# Altium integrated library NSC LDO.IntLib: 1202 symbols (part 9 of 27)
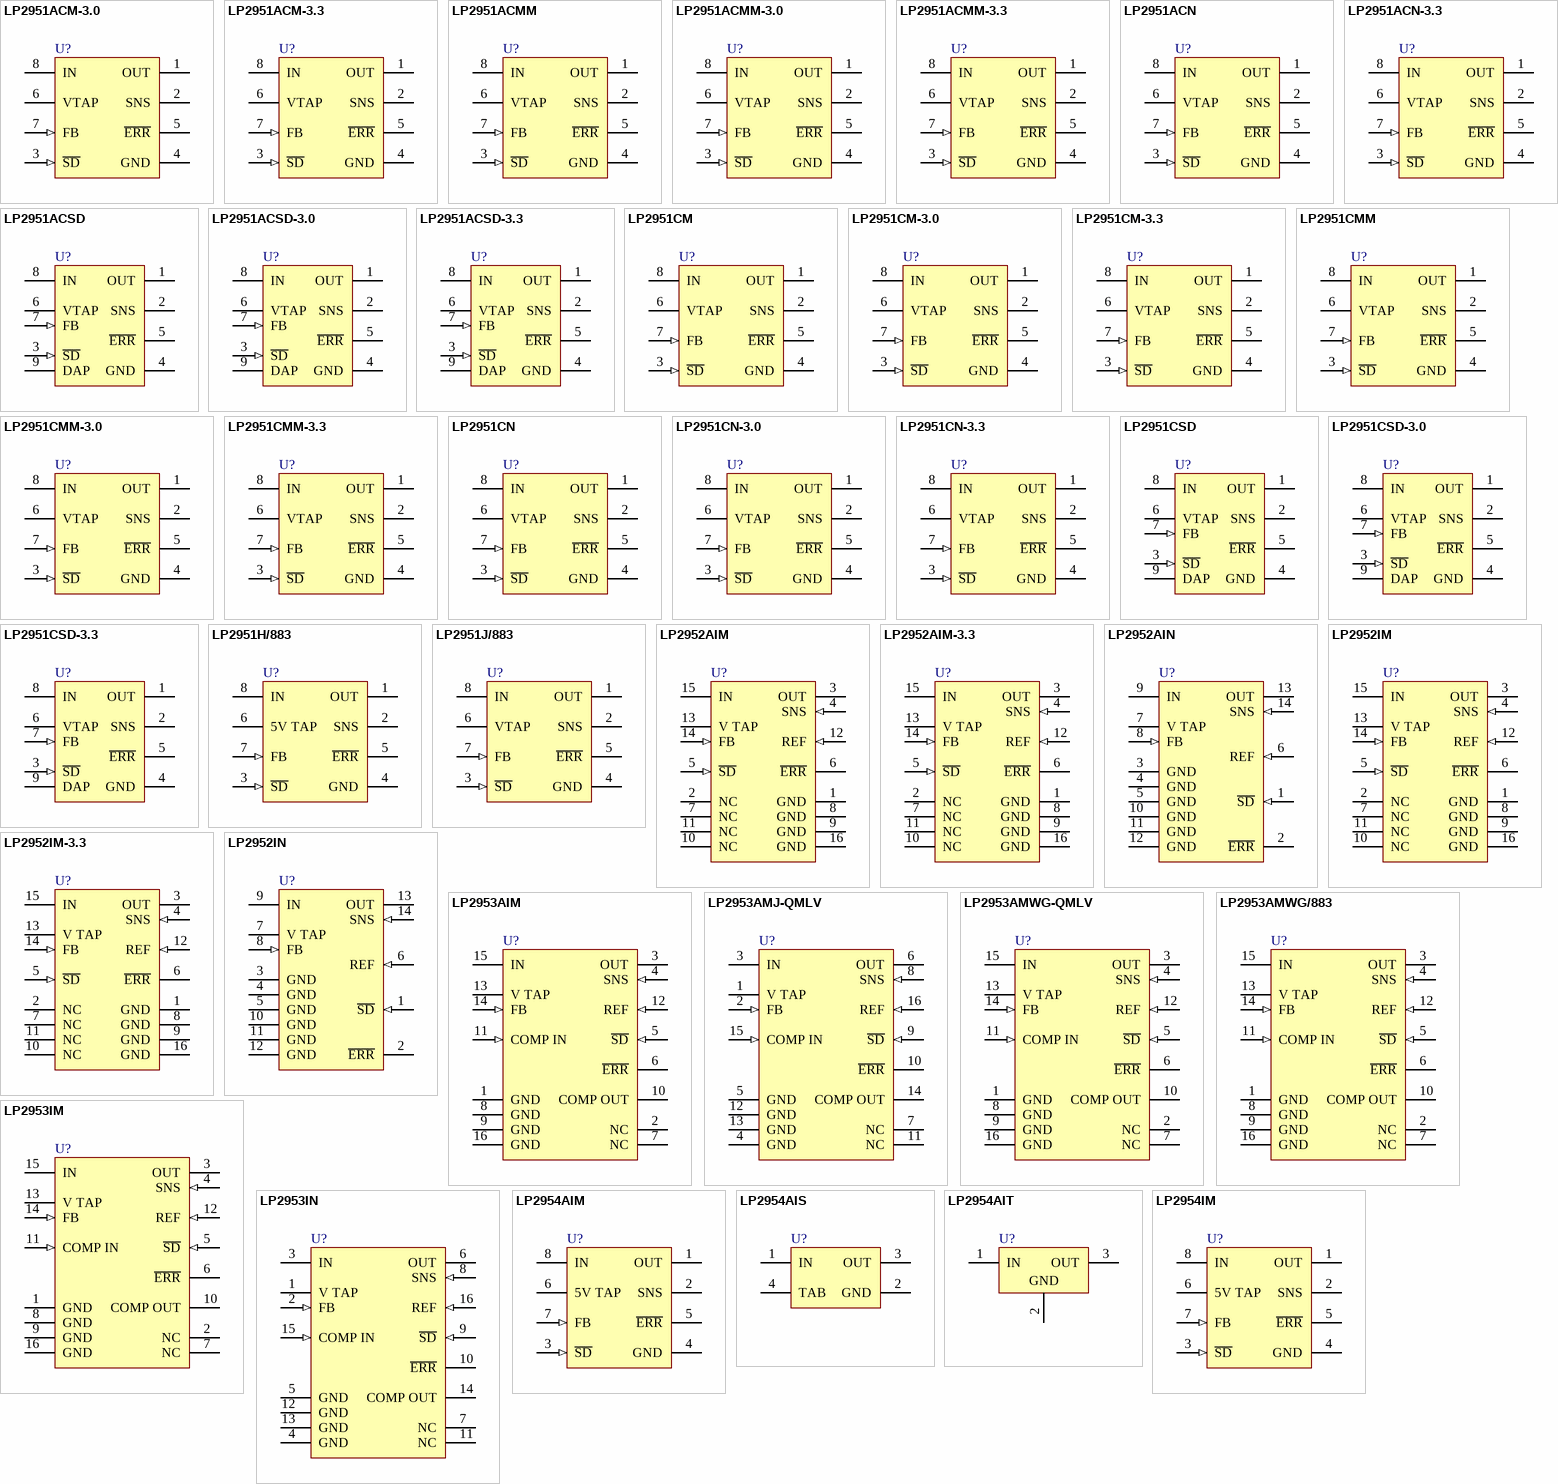
[diagram p38: symbols LP2951ACM-3.0 to LP2954IM]

## LP2951H/883
designator U?
Series of Adjustable Micropower Voltage Regulators; PartNumber: LP2951H/883; Manufacturer: National Semiconductor; CompType: LDO IC; PackageTopMarking: NS ZSSXXYYA LP2951H/883 Q*5962-3870501MGA; Published: 4-Dec-2008; DatasheetVersion: May-2005; PackageVersion: revF, Jun-1995; PackageReference: H08C; Publisher: Altium Limited; PackageDescription: Metal Can, TO-99, 8 Lead, .200 Dia., P.C.; RoHS: N; PinCount: 8; Code_JEDEC: TO-99; ComponentLink1Description: LP2951 Datasheet; ComponentLink1URL: http://www.national.com/ds/LP/LP2951.pdf; ComponentLink2Description: LP2951 Web Page; ComponentLink2URL: http://www.national.com/pf/LP/LP2951.html; ComponentLink3Description: H08C Package Page; ComponentLink3URL: http://www.national.com/packaging/folders/h08c.html
footprint H08C (Can; 8 Leads; Pin Circle Dia. 5.08 mm; Lead Dia. 0.48 mm (max))
pins: 1 OUT (power), 2 SNS, 3 ~{SD} (in), 4 GND (power), 5 ~{ERR} (oc), 6 5V TAP, 7 FB (in), 8 IN (power)

## LP2951J/883
designator U?
Series of Adjustable Micropower Voltage Regulators; PartNumber: LP2951J/883; Manufacturer: National Semiconductor; CompType: LDO IC; PackageTopMarking: NSZSSXXYYA*LP2951J/883*Q*3870501MPA; Published: 4-Dec-2008; DatasheetVersion: May-2005; PackageVersion: revM, Jul-2002; PackageReference: J08A; Publisher: Altium Limited; PackageDescription: Cerdip, .400 x .310in Body, 8 Lead, .300in Centers, .100in Pitch; RoHS: N; PinCount: 8; ComponentLink1Description: LP2951 Datasheet; ComponentLink1URL: http://www.national.com/ds/LP/LP2951.pdf; ComponentLink2Description: LP2951 Web Page; ComponentLink2URL: http://www.national.com/pf/LP/LP2951.html; ComponentLink3Description: J08A Package Page; ComponentLink3URL: http://www.national.com/packaging/folders/j08a.html
footprint J08A (DIP, 8-Leads, Row Spacing 7.62mm, Pitch 2.54mm, Body 9.78x6.73mm)
pins: 1 OUT (power), 2 SNS, 3 ~{SD} (in), 4 GND (power), 5 ~{ERR} (oc), 6 VTAP, 7 FB (in), 8 IN (power)

## LP2952AIM
designator U?
Adjustable Micropower Low-Dropout Voltage Regulator; PartNumber: LP2952AIM; Manufacturer: National Semiconductor; CompType: LDO IC; PackageTopMarking: NSUZXYTT*LP2952AIM; Published: 4-Dec-2008; DatasheetVersion: Mar-2005; PackageVersion: revJ, Aug-1995; PackageReference: M16A; Publisher: Altium Limited; PackageDescription: Molded Package, SO, .150in Wide, 16 Lead; RoHS: O; PinCount: 16; DigiKeyPartNumber: LP2952AIM-3.3-ND; Code_JEDEC: MS-012-AC; Code_IPC: SOIC127P600-16; ComponentLink1Description: LP2952 Datasheet; ComponentLink1URL: http://www.national.com/ds/LP/LP2952.pdf; ComponentLink2Description: LP2952 Web Page; ComponentLink2URL: http://www.national.com/pf/LP/LP2952.html; ComponentLink3Description: M16A Package Page; ComponentLink3URL: http://www.national.com/packaging/folders/m16a.html
footprint M16A_N (SOIC, 16-Leads, Body 9.9x3.9mm, Pitch 1.27mm, IPC Medium Density)
footprint M16A_L (SOIC, 16-Leads, Body 9.9x3.9mm, Pitch 1.27mm, IPC High Density)
footprint M16A_M (SOIC, 16-Leads, Body 9.9x3.9mm, Pitch 1.27mm, IPC Low Density)
pins: 1 GND (power), 2 NC, 3 OUT (power), 4 SNS (in), 5 ~{SD} (in), 6 ~{ERR} (oc), 7 NC, 8 GND (power), 9 GND (power), 10 NC, 11 NC, 12 REF (in), 13 V TAP, 14 FB (in), 15 IN (power), 16 GND (power)

## LP2952AIM-3.3
designator U?
Adjustable Micropower Low-Dropout Voltage Regulator; PartNumber: LP2952AIM-3.3; Manufacturer: National Semiconductor; CompType: LDO IC; PackageTopMarking: NSUZXYTT*LP2952AIM*-3.3; Published: 4-Dec-2008; DatasheetVersion: Mar-2005; PackageVersion: revJ, Aug-1995; PackageReference: M16A; Publisher: Altium Limited; PackageDescription: Molded Package, SO, .150in Wide, 16 Lead; RoHS: Y; PinCount: 16; DigiKeyPartNumber: LP2952AIM-3.3-ND; Code_JEDEC: MS-012-AC; Code_IPC: SOIC127P600-16; ComponentLink1Description: LP2952 Datasheet; ComponentLink1URL: http://www.national.com/ds/LP/LP2952.pdf; ComponentLink2Description: LP2952 Web Page; ComponentLink2URL: http://www.national.com/pf/LP/LP2952.html; ComponentLink3Description: M16A Package Page; ComponentLink3URL: http://www.national.com/packaging/folders/m16a.html
footprint M16A_N (SOIC, 16-Leads, Body 9.9x3.9mm, Pitch 1.27mm, IPC Medium Density)
footprint M16A_L (SOIC, 16-Leads, Body 9.9x3.9mm, Pitch 1.27mm, IPC High Density)
footprint M16A_M (SOIC, 16-Leads, Body 9.9x3.9mm, Pitch 1.27mm, IPC Low Density)
pins: 1 GND (power), 2 NC, 3 OUT (power), 4 SNS (in), 5 ~{SD} (in), 6 ~{ERR} (oc), 7 NC, 8 GND (power), 9 GND (power), 10 NC, 11 NC, 12 REF (in), 13 V TAP, 14 FB (in), 15 IN (power), 16 GND (power)

## LP2952AIN
designator U?
Adjustable Micropower Low-Dropout Voltage Regulator; PartNumber: LP2952AIN; Manufacturer: National Semiconductor; CompType: LDO IC; PackageTopMarking: NSUZXYYTTE#*LP2952AIN; Published: 4-Dec-2008; DatasheetVersion: Mar-2005; PackageVersion: revG, May-2006; PackageReference: N14A; Publisher: Altium Limited; PackageDescription: MDIP, .750 x .250 x.130in, 14 Lead, .100in Pitch; RoHS: O; PinCount: 14; DigiKeyPartNumber: LP2952AIN-ND; Code_JEDEC: MS-001-AA; ComponentLink1Description: LP2952 Datasheet; ComponentLink1URL: http://www.national.com/ds/LP/LP2952.pdf; ComponentLink2Description: LP2952 Web Page; ComponentLink2URL: http://www.national.com/pf/LP/LP2952.html; ComponentLink3Description: N14A Package Page; ComponentLink3URL: http://www.national.com/packaging/folders/n14a.html
footprint N14A (DIP, 14-Leads, Row Spacing 7.62mm, Pitch 2.54mm, Body 19.56x6.35mm)
pins: 1 ~{SD} (in), 2 ~{ERR} (oc), 3 GND (power), 4 GND (power), 5 GND (power), 6 REF (in), 7 V TAP, 8 FB (in), 9 IN (power), 10 GND (power), 11 GND (power), 12 GND (power), 13 OUT (power), 14 SNS (in)

## LP2952IM
designator U?
Adjustable Micropower Low-Dropout Voltage Regulator; PartNumber: LP2952IM; Manufacturer: National Semiconductor; CompType: LDO IC; PackageTopMarking: NSUZXYTT*LP2952IM; Published: 4-Dec-2008; DatasheetVersion: Mar-2005; PackageVersion: revJ, Aug-1995; PackageReference: M16A; Publisher: Altium Limited; PackageDescription: Molded Package, SO, .150in Wide, 16 Lead; RoHS: O; PinCount: 16; DigiKeyPartNumber: LP2952IM-ND; Code_JEDEC: MS-012-AC; Code_IPC: SOIC127P600-16; ComponentLink1Description: LP2952 Datasheet; ComponentLink1URL: http://www.national.com/ds/LP/LP2952.pdf; ComponentLink2Description: LP2952 Web Page; ComponentLink2URL: http://www.national.com/pf/LP/LP2952.html; ComponentLink3Description: M16A Package Page; ComponentLink3URL: http://www.national.com/packaging/folders/m16a.html
footprint M16A_N (SOIC, 16-Leads, Body 9.9x3.9mm, Pitch 1.27mm, IPC Medium Density)
footprint M16A_L (SOIC, 16-Leads, Body 9.9x3.9mm, Pitch 1.27mm, IPC High Density)
footprint M16A_M (SOIC, 16-Leads, Body 9.9x3.9mm, Pitch 1.27mm, IPC Low Density)
pins: 1 GND (power), 2 NC, 3 OUT (power), 4 SNS (in), 5 ~{SD} (in), 6 ~{ERR} (oc), 7 NC, 8 GND (power), 9 GND (power), 10 NC, 11 NC, 12 REF (in), 13 V TAP, 14 FB (in), 15 IN (power), 16 GND (power)

## LP2952IM-3.3
designator U?
Adjustable Micropower Low-Dropout Voltage Regulator; PartNumber: LP2952IM-3.3; Manufacturer: National Semiconductor; CompType: LDO IC; PackageTopMarking: NSUZXYTT*LP2952IM*-3.3; Published: 4-Dec-2008; DatasheetVersion: Mar-2005; PackageVersion: revJ, Aug-1995; PackageReference: M16A; Publisher: Altium Limited; PackageDescription: Molded Package, SO, .150in Wide, 16 Lead; RoHS: Y; PinCount: 16; DigiKeyPartNumber: LP2952IM-3.3-ND; Code_JEDEC: MS-012-AC; Code_IPC: SOIC127P600-16; ComponentLink1Description: LP2952 Datasheet; ComponentLink1URL: http://www.national.com/ds/LP/LP2952.pdf; ComponentLink2Description: LP2952 Web Page; ComponentLink2URL: http://www.national.com/pf/LP/LP2952.html; ComponentLink3Description: M16A Package Page; ComponentLink3URL: http://www.national.com/packaging/folders/m16a.html
footprint M16A_N (SOIC, 16-Leads, Body 9.9x3.9mm, Pitch 1.27mm, IPC Medium Density)
footprint M16A_L (SOIC, 16-Leads, Body 9.9x3.9mm, Pitch 1.27mm, IPC High Density)
footprint M16A_M (SOIC, 16-Leads, Body 9.9x3.9mm, Pitch 1.27mm, IPC Low Density)
pins: 1 GND (power), 2 NC, 3 OUT (power), 4 SNS (in), 5 ~{SD} (in), 6 ~{ERR} (oc), 7 NC, 8 GND (power), 9 GND (power), 10 NC, 11 NC, 12 REF (in), 13 V TAP, 14 FB (in), 15 IN (power), 16 GND (power)

## LP2952IN
designator U?
Adjustable Micropower Low-Dropout Voltage Regulator; PartNumber: LP2952IN; Manufacturer: National Semiconductor; CompType: LDO IC; PackageTopMarking: NSUZXYYTTE#*LP2952IN; Published: 4-Dec-2008; DatasheetVersion: Mar-2005; PackageVersion: revG, May-2006; PackageReference: N14A; Publisher: Altium Limited; PackageDescription: MDIP, .750 x .250 x.130in, 14 Lead, .100in Pitch; RoHS: Y; PinCount: 14; DigiKeyPartNumber: LP2952IN-ND; Code_JEDEC: MS-001-AA; ComponentLink1Description: LP2952 Datasheet; ComponentLink1URL: http://www.national.com/ds/LP/LP2952.pdf; ComponentLink2Description: LP2952 Web Page; ComponentLink2URL: http://www.national.com/pf/LP/LP2952.html; ComponentLink3Description: N14A Package Page; ComponentLink3URL: http://www.national.com/packaging/folders/n14a.html
footprint N14A (DIP, 14-Leads, Row Spacing 7.62mm, Pitch 2.54mm, Body 19.56x6.35mm)
pins: 1 ~{SD} (in), 2 ~{ERR} (oc), 3 GND (power), 4 GND (power), 5 GND (power), 6 REF (in), 7 V TAP, 8 FB (in), 9 IN (power), 10 GND (power), 11 GND (power), 12 GND (power), 13 OUT (power), 14 SNS (in)

## LP2953AIM
designator U?
Adjustable Micropower Low-Dropout Voltage Regulator; PartNumber: LP2953AIM; Manufacturer: National Semiconductor; CompType: LDO IC; PackageTopMarking: NSUZXYTT*LP2953AIM; Published: 4-Dec-2008; DatasheetVersion: Mar-2005; PackageVersion: revJ, Aug-1995; PackageReference: M16A; Publisher: Altium Limited; PackageDescription: Molded Package, SO, .150in Wide, 16 Lead; RoHS: Y; PinCount: 16; DigiKeyPartNumber: LP2953AIM-ND; Code_JEDEC: MS-012-AC; Code_IPC: SOIC127P600-16; ComponentLink1Description: LP2953 Datasheet; ComponentLink1URL: http://www.national.com/ds/LP/LP2953.pdf; ComponentLink2Description: LP2953 Web Page; ComponentLink2URL: http://www.national.com/pf/LP/LP2953.html; ComponentLink3Description: M16A Package Page; ComponentLink3URL: http://www.national.com/packaging/folders/m16a.html
footprint M16A_N (SOIC, 16-Leads, Body 9.9x3.9mm, Pitch 1.27mm, IPC Medium Density)
footprint M16A_L (SOIC, 16-Leads, Body 9.9x3.9mm, Pitch 1.27mm, IPC High Density)
footprint M16A_M (SOIC, 16-Leads, Body 9.9x3.9mm, Pitch 1.27mm, IPC Low Density)
pins: 1 GND (power), 2 NC, 3 OUT (power), 4 SNS (in), 5 ~{SD} (in), 6 ~{ERR} (oc), 7 NC, 8 GND (power), 9 GND, 10 COMP OUT (oc), 11 COMP IN (in), 12 REF (in), 13 V TAP, 14 FB (in), 15 IN (power), 16 GND (power)

## LP2953AMJ-QMLV
designator U?
Adjustable Micropower Low-Dropout Voltage Regulator; PartNumber: LP2953AMJ-QMLV; Manufacturer: National Semiconductor; CompType: LDO IC; PackageTopMarking: NSZSSXXYYA*LP2953AMJ-QV Q*5962-9233601VEA; Published: 4-Dec-2008; DatasheetVersion: Mar-2005; PackageVersion: revL, Sep-1993; PackageReference: J16A; Publisher: Altium Limited; PackageDescription: Cerdip (J), 16 Lead; RoHS: N; PinCount: 16; ComponentLink1Description: LP2953A Datasheet; ComponentLink1URL: http://www.national.com/ds/LP/LP2953A.pdf; ComponentLink2Description: LP2953A Web Page; ComponentLink2URL: http://www.national.com/pf/LP/LP2953A.html; ComponentLink3Description: J16A Package Page; ComponentLink3URL: http://www.national.com/packaging/folders/j16a.html
footprint J16A (DIP, 16-Leads, Row Spacing 7.62mm, Pitch 2.54mm, Body 19.56x6.73mm)
pins: 1 V TAP, 2 FB (in), 3 IN (power), 4 GND (power), 5 GND (power), 6 OUT (power), 7 NC, 8 SNS (in), 9 ~{SD} (in), 10 ~{ERR} (oc), 11 NC, 12 GND (power), 13 GND, 14 COMP OUT (oc), 15 COMP IN (in), 16 REF (in)

## LP2953AMWG-QMLV
designator U?
Adjustable Micropower Low-Dropout Voltage Regulator; PartNumber: LP2953AMWG-QMLV; Manufacturer: National Semiconductor; CompType: LDO IC; PackageTopMarking: NSZSSXXYYA*LP2953AMWG-*QV Q 5962-*9233601VXA; Published: 4-Dec-2008; DatasheetVersion: Mar-2005; PackageVersion: revE, Jul-2007; PackageReference: WG16A; Publisher: Altium Limited; PackageDescription: Cerpack, .390 x .250 x .070in, 16 Lead, .050in Pitch, Gull Wing; RoHS: N; PinCount: 16; ComponentLink1Description: LP2953A Datasheet; ComponentLink1URL: http://www.national.com/ds/LP/LP2953A.pdf; ComponentLink2Description: LP2953A Web Page; ComponentLink2URL: http://www.national.com/pf/LP/LP2953A.html; ComponentLink3Description: WG16A Package Page; ComponentLink3URL: http://www.national.com/packaging/folders/wg16a.html
footprint WG16A_N (CERPACK, 16-Leads, Body 9.9x6.5mm, Pitch 1.27mm, IPC Medium Density)
footprint WG16A_L (CERPACK, 16-Leads, Body 9.9x6.5mm, Pitch 1.27mm, IPC High Density)
footprint WG16A_M (CERPACK, 16-Leads, Body 9.9x6.5mm, Pitch 1.27mm, IPC Low Density)
pins: 1 GND (power), 2 NC, 3 OUT (power), 4 SNS (in), 5 ~{SD} (in), 6 ~{ERR} (oc), 7 NC, 8 GND (power), 9 GND, 10 COMP OUT (oc), 11 COMP IN (in), 12 REF (in), 13 V TAP, 14 FB (in), 15 IN (power), 16 GND (power)

## LP2953AMWG/883
designator U?
Adjustable Micropower Low-Dropout Voltage Regulator; PartNumber: LP2953AMWG/883; Manufacturer: National Semiconductor; CompType: LDO IC; PackageTopMarking: NSZSSXXYYA*5962-9233601*QXA Q LP2953*AMWG/883; Published: 4-Dec-2008; DatasheetVersion: Mar-2005; PackageVersion: revE, Jul-2007; PackageReference: WG16A; Publisher: Altium Limited; PackageDescription: Cerpack, .390 x .250 x .070in, 16 Lead, .050in Pitch, Gull Wing; RoHS: N; PinCount: 16; ComponentLink1Description: LP2953A Datasheet; ComponentLink1URL: http://www.national.com/ds/LP/LP2953A.pdf; ComponentLink2Description: LP2953A Web Page; ComponentLink2URL: http://www.national.com/pf/LP/LP2953A.html; ComponentLink3Description: WG16A Package Page; ComponentLink3URL: http://www.national.com/packaging/folders/wg16a.html
footprint WG16A_N (CERPACK, 16-Leads, Body 9.9x6.5mm, Pitch 1.27mm, IPC Medium Density)
footprint WG16A_L (CERPACK, 16-Leads, Body 9.9x6.5mm, Pitch 1.27mm, IPC High Density)
footprint WG16A_M (CERPACK, 16-Leads, Body 9.9x6.5mm, Pitch 1.27mm, IPC Low Density)
pins: 1 GND (power), 2 NC, 3 OUT (power), 4 SNS (in), 5 ~{SD} (in), 6 ~{ERR} (oc), 7 NC, 8 GND (power), 9 GND, 10 COMP OUT (oc), 11 COMP IN (in), 12 REF (in), 13 V TAP, 14 FB (in), 15 IN (power), 16 GND (power)

## LP2953IM
designator U?
Adjustable Micropower Low-Dropout Voltage Regulator; PartNumber: LP2953IM; Manufacturer: National Semiconductor; CompType: LDO IC; PackageTopMarking: NSUZXYTT*LP2953IM; Published: 4-Dec-2008; DatasheetVersion: Mar-2005; PackageVersion: revJ, Aug-1995; PackageReference: M16A; Publisher: Altium Limited; PackageDescription: Molded Package, SO, .150in Wide, 16 Lead; RoHS: Y; PinCount: 16; DigiKeyPartNumber: LP2953IM-ND; Code_JEDEC: MS-012-AC; Code_IPC: SOIC127P600-16; ComponentLink1Description: LP2953 Datasheet; ComponentLink1URL: http://www.national.com/ds/LP/LP2953.pdf; ComponentLink2Description: LP2953 Web Page; ComponentLink2URL: http://www.national.com/pf/LP/LP2953.html; ComponentLink3Description: M16A Package Page; ComponentLink3URL: http://www.national.com/packaging/folders/m16a.html
footprint M16A_N (SOIC, 16-Leads, Body 9.9x3.9mm, Pitch 1.27mm, IPC Medium Density)
footprint M16A_L (SOIC, 16-Leads, Body 9.9x3.9mm, Pitch 1.27mm, IPC High Density)
footprint M16A_M (SOIC, 16-Leads, Body 9.9x3.9mm, Pitch 1.27mm, IPC Low Density)
pins: 1 GND (power), 2 NC, 3 OUT (power), 4 SNS (in), 5 ~{SD} (in), 6 ~{ERR} (oc), 7 NC, 8 GND (power), 9 GND, 10 COMP OUT (oc), 11 COMP IN (in), 12 REF (in), 13 V TAP, 14 FB (in), 15 IN (power), 16 GND (power)

## LP2953IN
designator U?
Adjustable Micropower Low-Dropout Voltage Regulator; PartNumber: LP2953IN; Manufacturer: National Semiconductor; CompType: LDO IC; PackageTopMarking: NSUZXYYTTE#*LP2953IN; Published: 4-Dec-2008; DatasheetVersion: Mar-2005; PackageVersion: revB, Feb-1989; PackageReference: N16G; Publisher: Altium Limited; PackageDescription: Molded Dip (N), 16 Lead, 15 Mil Power Package; RoHS: Y; PinCount: 16; DigiKeyPartNumber: LP2953IN-ND; ComponentLink1Description: LP2953 Datasheet; ComponentLink1URL: http://www.national.com/ds/LP/LP2953.pdf; ComponentLink2Description: LP2953 Web Page; ComponentLink2URL: http://www.national.com/pf/LP/LP2953.html; ComponentLink3Description: N16G Package Page; ComponentLink3URL: http://www.national.com/packaging/folders/n16g.html
footprint N16G (DIP, 16-Leads, Row Spacing 7.62mm, Pitch 2.54mm, Body 21.76x6.35mm)
pins: 1 V TAP, 2 FB (in), 3 IN (power), 4 GND (power), 5 GND (power), 6 OUT (power), 7 NC, 8 SNS (in), 9 ~{SD} (in), 10 ~{ERR} (oc), 11 NC, 12 GND (power), 13 GND, 14 COMP OUT (oc), 15 COMP IN (in), 16 REF (in)

## LP2954AIM
designator U?
5V Micropower Low-Dropout Voltage Regulator; PartNumber: LP2954AIM; Manufacturer: National Semiconductor; CompType: LDO IC; PackageTopMarking: NSZXTT*LP295*4AIM; Published: 4-Dec-2008; DatasheetVersion: Apr-2005; PackageVersion: revL, Sep-2006; PackageReference: M08A; Publisher: Altium Limited; PackageDescription: SOIC Narrow, 4.9 x 3.9 x 1.45mm, 8 Lead, 1.27mm Pitch; RoHS: O; PinCount: 8; DigiKeyPartNumber: LP2954AIMX-ND; Code_JEDEC: MS-012-AA; Code_IPC: SOIC127P600-8; ComponentLink1Description: LP2954A Datasheet; ComponentLink1URL: http://www.national.com/ds/LP/LP2954A.pdf; ComponentLink2Description: LP2954A Web Page; ComponentLink2URL: http://www.national.com/pf/LP/LP2954A.html; ComponentLink3Description: M08A Package Page; ComponentLink3URL: http://www.national.com/packaging/folders/m08a.html
footprint M08A_N (SOIC, 8-Leads, Body 4.9x3.9mm, Pitch 1.27mm, IPC Medium Density)
footprint M08A_L (SOIC, 8-Leads, Body 4.9x3.9mm, Pitch 1.27mm, IPC High Density)
footprint M08A_M (SOIC, 8-Leads, Body 4.9x3.9mm, Pitch 1.27mm, IPC Low Density)
pins: 1 OUT (power), 2 SNS, 3 ~{SD} (in), 4 GND (power), 5 ~{ERR} (oc), 6 5V TAP, 7 FB (in), 8 IN (power)

## LP2954AIS
designator U?
5V Micropower Low-Dropout Voltage Regulator; PartNumber: LP2954AIS; Manufacturer: National Semiconductor; CompType: LDO IC; PackageTopMarking: NSUZXYTTE#*LP2954AIS; Published: 4-Dec-2008; DatasheetVersion: Apr-2005; PackageVersion: revF, Apr-2005; PackageReference: TS3B; Publisher: Altium Limited; PackageDescription: TO-263, Molded, .400 x .390 x .180in, 3 Lead, .1in Pitch, Surface Mount; RoHS: O; PinCount: 3; DigiKeyPartNumber: LP2954AIS-ND; Code_JEDEC: MO-169-AA; ComponentLink1Description: LP2954A Datasheet; ComponentLink1URL: http://www.national.com/ds/LP/LP2954A.pdf; ComponentLink2Description: LP2954A Web Page; ComponentLink2URL: http://www.national.com/pf/LP/LP2954A.html; ComponentLink3Description: TS3B Package Page; ComponentLink3URL: http://www.national.com/packaging/folders/ts3b.html
footprint TS3B_N (D2-PAK, 4-Leads, Body 8.6x10.2mm, Pitch 2.54mm, Lead Span 14.2mm, IPC Medium Density)
footprint TS3B_L (D2-PAK, 4-Leads, Body 8.6x10.2mm, Pitch 2.54mm, Lead Span 14.2mm, IPC High Density)
footprint TS3B_M (D2-PAK, 4-Leads, Body 8.6x10.2mm, Pitch 2.54mm, Lead Span 14.2mm, IPC Low Density)
pins: 1 IN (power), 2 GND (power), 3 OUT (power), 4 TAB (power)

## LP2954AIT
designator U?
5V Micropower Low-Dropout Voltage Regulator; PartNumber: LP2954AIT; Manufacturer: National Semiconductor; CompType: LDO IC; PackageTopMarking: NSUZXYTTE#*LP2954AIT; Published: 4-Dec-2008; DatasheetVersion: Apr-2005; PackageVersion: revL, Jan-1992; PackageReference: T03B; Publisher: Altium Limited; PackageDescription: TO-220, Molded, 3 Lead, Straight; RoHS: Y; PinCount: 3; DigiKeyPartNumber: LP2954AIT-ND; ComponentLink1Description: LP2954A Datasheet; ComponentLink1URL: http://www.national.com/ds/LP/LP2954A.pdf; ComponentLink2Description: LP2954A Web Page; ComponentLink2URL: http://www.national.com/pf/LP/LP2954A.html; ComponentLink3Description: T03B Package Page; ComponentLink3URL: http://www.national.com/packaging/folders/t03b.html
footprint T03B (TO, Thru-Hole, Vertical, Heatsink Mounted; 3 In-Line Leads; Pitch 2.54 mm)
pins: 1 IN (power), 2 GND (power), 3 OUT (power)

## LP2954IM
designator U?
5V Micropower Low-Dropout Voltage Regulator; PartNumber: LP2954IM; Manufacturer: National Semiconductor; CompType: LDO IC; PackageTopMarking: NSZXTT*LP29*54IM; Published: 4-Dec-2008; DatasheetVersion: Apr-2005; PackageVersion: revL, Sep-2006; PackageReference: M08A; Publisher: Altium Limited; PackageDescription: SOIC Narrow, 4.9 x 3.9 x 1.45mm, 8 Lead, 1.27mm Pitch; RoHS: Y; PinCount: 8; DigiKeyPartNumber: LP2954IM-ND; Code_JEDEC: MS-012-AA; Code_IPC: SOIC127P600-8; ComponentLink1Description: LP2954 Datasheet; ComponentLink1URL: http://www.national.com/ds/LP/LP2954.pdf; ComponentLink2Description: LP2954 Web Page; ComponentLink2URL: http://www.national.com/pf/LP/LP2954.html; ComponentLink3Description: M08A Package Page; ComponentLink3URL: http://www.national.com/packaging/folders/m08a.html
footprint M08A_N (SOIC, 8-Leads, Body 4.9x3.9mm, Pitch 1.27mm, IPC Medium Density)
footprint M08A_L (SOIC, 8-Leads, Body 4.9x3.9mm, Pitch 1.27mm, IPC High Density)
footprint M08A_M (SOIC, 8-Leads, Body 4.9x3.9mm, Pitch 1.27mm, IPC Low Density)
pins: 1 OUT (power), 2 SNS, 3 ~{SD} (in), 4 GND (power), 5 ~{ERR} (oc), 6 5V TAP, 7 FB (in), 8 IN (power)

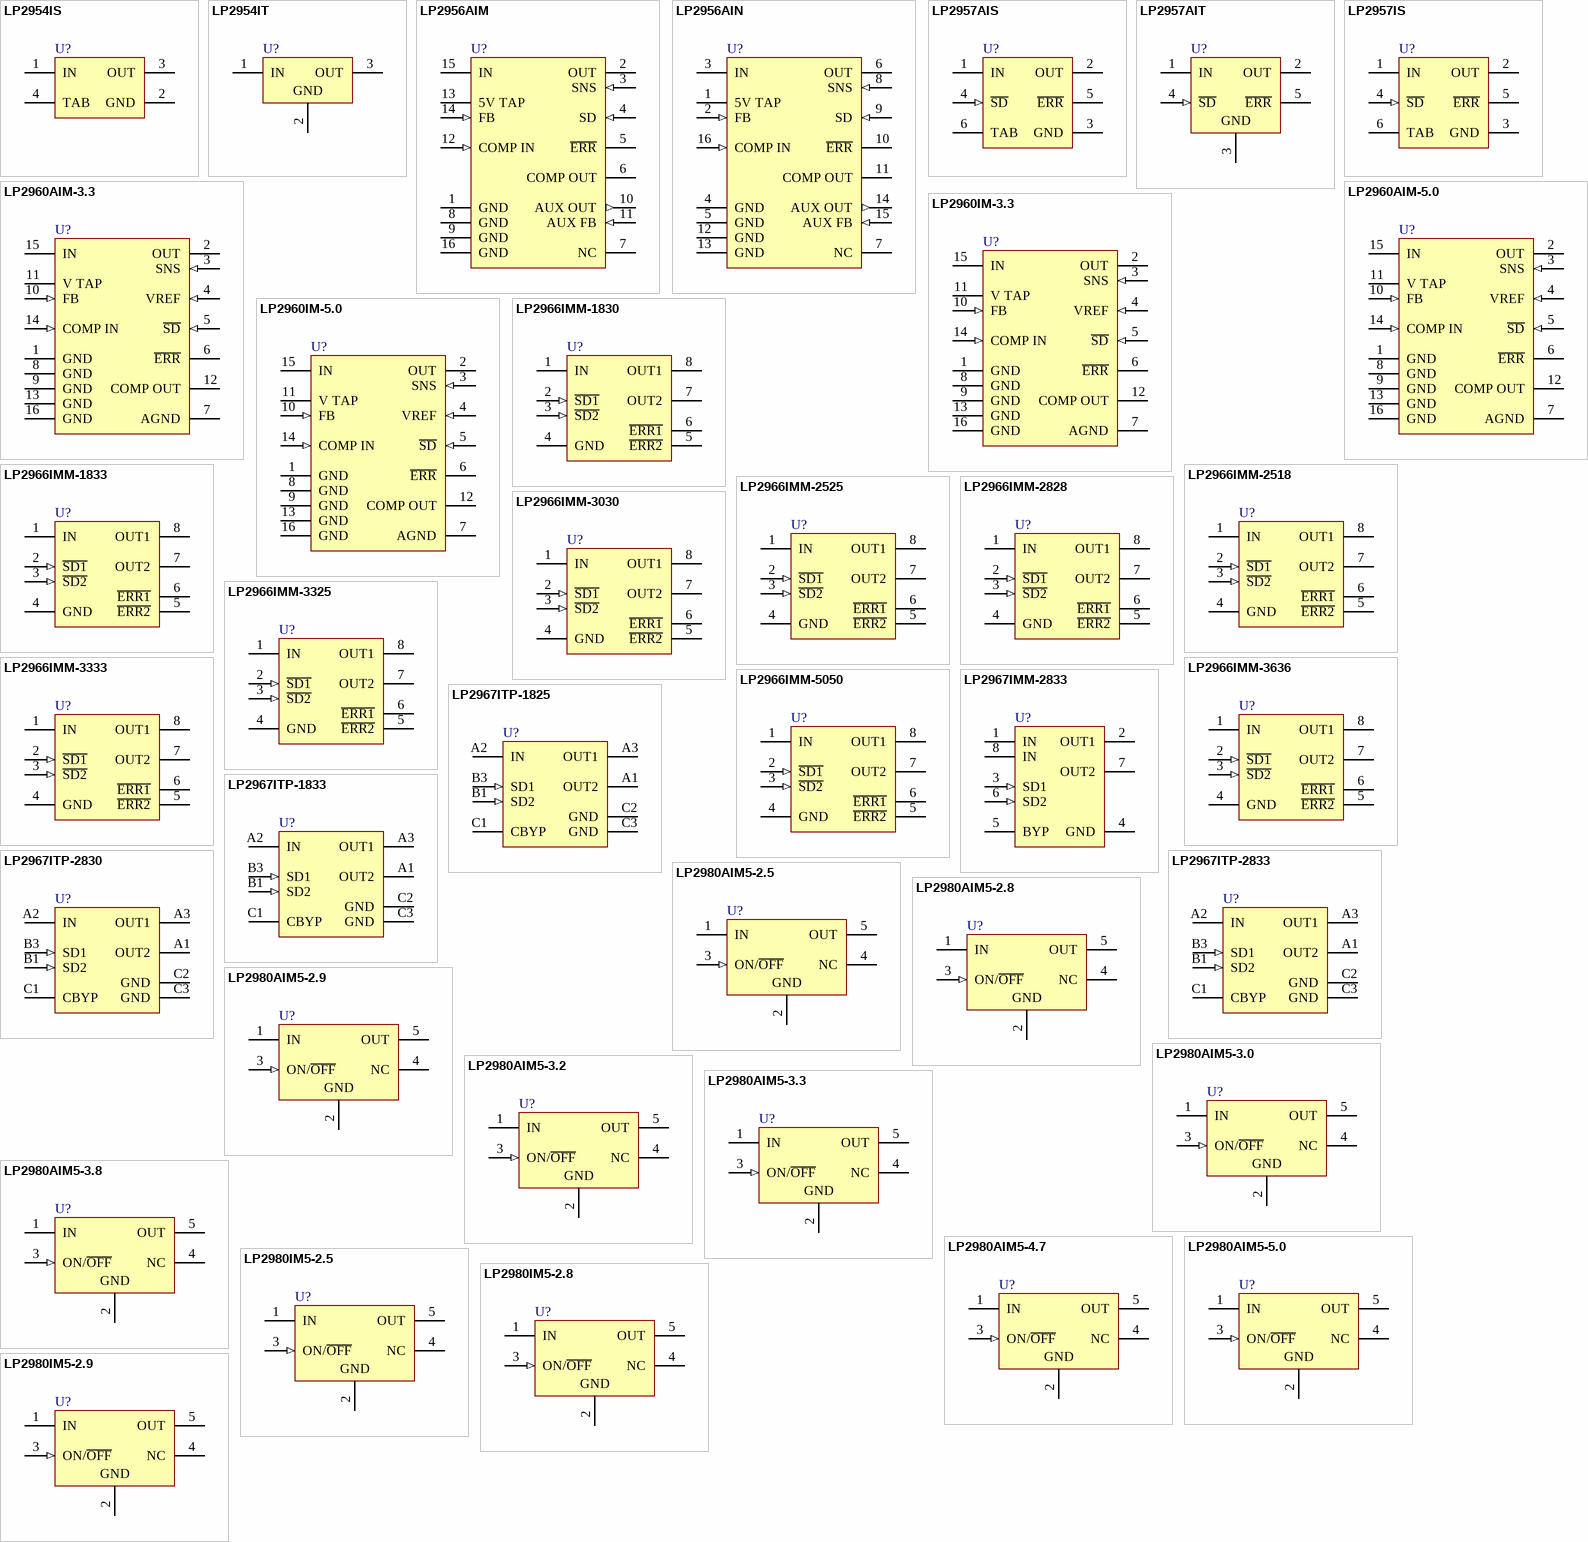
[diagram p10: symbols LP2954IS to LP2980IM5-2.9]

## LP2954IS
designator U?
5V Micropower Low-Dropout Voltage Regulator; PartNumber: LP2954IS; Manufacturer: National Semiconductor; CompType: LDO IC; PackageTopMarking: NSUZXYTTE#*LP2954IS; Published: 4-Dec-2008; DatasheetVersion: Apr-2005; PackageVersion: revF, Apr-2005; PackageReference: TS3B; Publisher: Altium Limited; PackageDescription: TO-263, Molded, .400 x .390 x .180in, 3 Lead, .1in Pitch, Surface Mount; RoHS: Y; PinCount: 3; DigiKeyPartNumber: LP2954IS-ND; Code_JEDEC: MO-169-AA; ComponentLink1Description: LP2954 Datasheet; ComponentLink1URL: http://www.national.com/ds/LP/LP2954.pdf; ComponentLink2Description: LP2954 Web Page; ComponentLink2URL: http://www.national.com/pf/LP/LP2954.html; ComponentLink3Description: TS3B Package Page; ComponentLink3URL: http://www.national.com/packaging/folders/ts3b.html
footprint TS3B_N (D2-PAK, 4-Leads, Body 8.6x10.2mm, Pitch 2.54mm, Lead Span 14.2mm, IPC Medium Density)
footprint TS3B_L (D2-PAK, 4-Leads, Body 8.6x10.2mm, Pitch 2.54mm, Lead Span 14.2mm, IPC High Density)
footprint TS3B_M (D2-PAK, 4-Leads, Body 8.6x10.2mm, Pitch 2.54mm, Lead Span 14.2mm, IPC Low Density)
pins: 1 IN (power), 2 GND (power), 3 OUT (power), 4 TAB (power)

## LP2954IT
designator U?
5V Micropower Low-Dropout Voltage Regulator; PartNumber: LP2954IT; Manufacturer: National Semiconductor; CompType: LDO IC; PackageTopMarking: NSUZXYTTE#*LP2954IT; Published: 4-Dec-2008; DatasheetVersion: Apr-2005; PackageVersion: revL, Jan-1992; PackageReference: T03B; Publisher: Altium Limited; PackageDescription: TO-220, Molded, 3 Lead, Straight; RoHS: Y; PinCount: 3; DigiKeyPartNumber: LP2954IT-ND; ComponentLink1Description: LP2954 Datasheet; ComponentLink1URL: http://www.national.com/ds/LP/LP2954.pdf; ComponentLink2Description: LP2954 Web Page; ComponentLink2URL: http://www.national.com/pf/LP/LP2954.html; ComponentLink3Description: T03B Package Page; ComponentLink3URL: http://www.national.com/packaging/folders/t03b.html
footprint T03B (TO, Thru-Hole, Vertical, Heatsink Mounted; 3 In-Line Leads; Pitch 2.54 mm)
pins: 1 IN (power), 2 GND (power), 3 OUT (power)

## LP2956AIM
designator U?
Dual Micropower Low-Dropout Voltage Regulator; PartNumber: LP2956AIM; Manufacturer: National Semiconductor; CompType: LDO IC; PackageTopMarking: NSUZXYTT*LP2956AIM; Published: 4-Dec-2008; DatasheetVersion: Mar-2005; PackageVersion: revJ, Aug-1995; PackageReference: M16A; Publisher: Altium Limited; PackageDescription: Molded Package, SO, .150in Wide, 16 Lead; RoHS: Y; PinCount: 16; DigiKeyPartNumber: LP2956AIM-ND; Code_JEDEC: MS-012-AC; Code_IPC: SOIC127P600-16; ComponentLink1Description: LP2956A Datasheet; ComponentLink1URL: http://www.national.com/ds/LP/LP2956A.pdf; ComponentLink2Description: LP2956A Web Page; ComponentLink2URL: http://www.national.com/pf/LP/LP2956A.html; ComponentLink3Description: M16A Package Page; ComponentLink3URL: http://www.national.com/packaging/folders/m16a.html
footprint M16A_N (SOIC, 16-Leads, Body 9.9x3.9mm, Pitch 1.27mm, IPC Medium Density)
footprint M16A_L (SOIC, 16-Leads, Body 9.9x3.9mm, Pitch 1.27mm, IPC High Density)
footprint M16A_M (SOIC, 16-Leads, Body 9.9x3.9mm, Pitch 1.27mm, IPC Low Density)
pins: 1 GND (power), 2 OUT (power), 3 SNS (in), 4 SD (in), 5 ~{ERR} (oc), 6 COMP OUT (oc), 7 NC, 8 GND (power), 9 GND (power), 10 AUX OUT (out), 11 AUX FB (in), 12 COMP IN (in), 13 5V TAP, 14 FB (in), 15 IN (power), 16 GND (power)

## LP2956AIN
designator U?
Dual Micropower Low-Dropout Voltage Regulator; PartNumber: LP2956AIN; Manufacturer: National Semiconductor; CompType: LDO IC; PackageTopMarking: NSUZXYYTTE#*LP2956AIN; Published: 4-Dec-2008; DatasheetVersion: Mar-2005; PackageVersion: revB, Feb-1989; PackageReference: N16G; Publisher: Altium Limited; PackageDescription: Molded Dip (N), 16 Lead, 15 Mil Power Package; RoHS: Y; PinCount: 16; DigiKeyPartNumber: LP2956AIN-ND; ComponentLink1Description: LP2956A Datasheet; ComponentLink1URL: http://www.national.com/ds/LP/LP2956A.pdf; ComponentLink2Description: LP2956A Web Page; ComponentLink2URL: http://www.national.com/pf/LP/LP2956A.html; ComponentLink3Description: N16G Package Page; ComponentLink3URL: http://www.national.com/packaging/folders/n16g.html
footprint N16G (DIP, 16-Leads, Row Spacing 7.62mm, Pitch 2.54mm, Body 21.76x6.35mm)
pins: 1 5V TAP, 2 FB (in), 3 IN (power), 4 GND (power), 5 GND (power), 6 OUT (power), 7 NC, 8 SNS (in), 9 SD (in), 10 ~{ERR} (oc), 11 COMP OUT (oc), 12 GND (power), 13 GND (power), 14 AUX OUT (out), 15 AUX FB (in), 16 COMP IN (in)

## LP2957AIS
designator U?
5V Low-Dropout Regulator for micro-P Application; PartNumber: LP2957AIS; Manufacturer: National Semiconductor; CompType: LDO IC; PackageTopMarking: NSUZXYTTE#*LP2957AIS; Published: 4-Dec-2008; DatasheetVersion: Jun-1998; PackageVersion: revD, Apr-2005; PackageReference: TS5B; Publisher: Altium Limited; PackageDescription: TO-263, Molded, .400 x .390 x .180in, 5 Lead, .067in Pitch, Surface Mount; RoHS: Y; PinCount: 5; DigiKeyPartNumber: LP2957AIS-ND; Code_JEDEC: MO-169-AB; ComponentLink1Description: LP2957A Datasheet; ComponentLink1URL: http://www.national.com/ds/LP/LP2957A.pdf; ComponentLink2Description: LP2957A Web Page; ComponentLink2URL: http://www.national.com/pf/LP/LP2957A.html; ComponentLink3Description: TS5B Package Page; ComponentLink3URL: http://www.national.com/packaging/folders/ts5b.html
footprint TS5B_N (D2-PAK, 6-Leads, Body 8.6x10.2mm, Pitch 1.7mm, Lead Span 14.1mm, IPC Medium Density)
footprint TS5B_L (D2-PAK, 6-Leads, Body 8.6x10.2mm, Pitch 1.7mm, Lead Span 14.1mm, IPC High Density)
footprint TS5B_M (D2-PAK, 6-Leads, Body 8.6x10.2mm, Pitch 1.7mm, Lead Span 14.1mm, IPC Low Density)
pins: 1 IN (power), 2 OUT (power), 3 GND (power), 4 ~{SD} (in), 5 ~{ERR} (oc), 6 TAB (power)

## LP2957AIT
designator U?
5V Low-Dropout Regulator for micro-P Application; PartNumber: LP2957AIT; Manufacturer: National Semiconductor; CompType: LDO IC; PackageTopMarking: NSUZXYTTE#*LP2957AIT; Published: 4-Dec-2008; DatasheetVersion: Jun-1998; PackageVersion: revA, Oct-1989; PackageReference: T05D; Publisher: Altium Limited; PackageDescription: TO-220, Molded, Stagger Bend, 5 Lead; RoHS: Y; PinCount: 5; DigiKeyPartNumber: LP2957AIT-ND; ComponentLink1Description: LP2957A Datasheet; ComponentLink1URL: http://www.national.com/ds/LP/LP2957A.pdf; ComponentLink2Description: LP2957A Web Page; ComponentLink2URL: http://www.national.com/pf/LP/LP2957A.html; ComponentLink3Description: T05D Package Page; ComponentLink3URL: http://www.national.com/packaging/folders/t05d.html
footprint T05D (TO, Thru-Hole, Vertical, Heatsink Mounted; 5 Bent Staggered Leads; Pitch 1.7 mm)
pins: 1 IN (power), 2 OUT (power), 3 GND (power), 4 ~{SD} (in), 5 ~{ERR} (oc)

## LP2957IS
designator U?
5V Low-Dropout Regulator for micro-P Application; PartNumber: LP2957IS; Manufacturer: National Semiconductor; CompType: LDO IC; PackageTopMarking: NSUZXYTTE#*LP2957IS; Published: 4-Dec-2008; DatasheetVersion: Jun-1998; PackageVersion: revD, Apr-2005; PackageReference: TS5B; Publisher: Altium Limited; PackageDescription: TO-263, Molded, .400 x .390 x .180in, 5 Lead, .067in Pitch, Surface Mount; RoHS: Y; PinCount: 5; DigiKeyPartNumber: LP2957IS-ND; Code_JEDEC: MO-169-AB; ComponentLink1Description: LP2957 Datasheet; ComponentLink1URL: http://www.national.com/ds/LP/LP2957.pdf; ComponentLink2Description: LP2957 Web Page; ComponentLink2URL: http://www.national.com/pf/LP/LP2957.html; ComponentLink3Description: TS5B Package Page; ComponentLink3URL: http://www.national.com/packaging/folders/ts5b.html
footprint TS5B_N (D2-PAK, 6-Leads, Body 8.6x10.2mm, Pitch 1.7mm, Lead Span 14.1mm, IPC Medium Density)
footprint TS5B_L (D2-PAK, 6-Leads, Body 8.6x10.2mm, Pitch 1.7mm, Lead Span 14.1mm, IPC High Density)
footprint TS5B_M (D2-PAK, 6-Leads, Body 8.6x10.2mm, Pitch 1.7mm, Lead Span 14.1mm, IPC Low Density)
pins: 1 IN (power), 2 OUT (power), 3 GND (power), 4 ~{SD} (in), 5 ~{ERR} (oc), 6 TAB (power)

## LP2960AIM-3.3
designator U?
Adjustable Micropower 0.5A Low-Dropout Regulators; PartNumber: LP2960AIM-3.3; Manufacturer: National Semiconductor; CompType: LDO IC; PackageTopMarking: NSUZXYTT*LP2960AIM*-3.3; Published: 4-Dec-2008; DatasheetVersion: Jun-2005; PackageVersion: revJ, Aug-1995; PackageReference: M16A; Publisher: Altium Limited; PackageDescription: Molded Package, SO, .150in Wide, 16 Lead; RoHS: Y; PinCount: 16; DigiKeyPartNumber: LP2960AIM-3.3-ND; Code_JEDEC: MS-012-AC; Code_IPC: SOIC127P600-16; ComponentLink1Description: LP2960 Datasheet; ComponentLink1URL: http://www.national.com/ds/LP/LP2960.pdf; ComponentLink2Description: LP2960 Web Page; ComponentLink2URL: http://www.national.com/pf/LP/LP2960.html; ComponentLink3Description: M16A Package Page; ComponentLink3URL: http://www.national.com/packaging/folders/m16a.html
footprint M16A_N (SOIC, 16-Leads, Body 9.9x3.9mm, Pitch 1.27mm, IPC Medium Density)
footprint M16A_L (SOIC, 16-Leads, Body 9.9x3.9mm, Pitch 1.27mm, IPC High Density)
footprint M16A_M (SOIC, 16-Leads, Body 9.9x3.9mm, Pitch 1.27mm, IPC Low Density)
pins: 1 GND (power), 2 OUT (power), 3 SNS (in), 4 VREF (in), 5 ~{SD} (in), 6 ~{ERR} (oc), 7 AGND (power), 8 GND (power), 9 GND (power), 10 FB (in), 11 V TAP, 12 COMP OUT (oc), 13 GND (power), 14 COMP IN (in), 15 IN (power), 16 GND (power)

## LP2960AIM-5.0
designator U?
Adjustable Micropower 0.5A Low-Dropout Regulators; PartNumber: LP2960AIM-5.0; Manufacturer: National Semiconductor; CompType: LDO IC; PackageTopMarking: NSUZXYTT*LP2960AIM*-5.0; Published: 4-Dec-2008; DatasheetVersion: Jun-2005; PackageVersion: revJ, Aug-1995; PackageReference: M16A; Publisher: Altium Limited; PackageDescription: Molded Package, SO, .150in Wide, 16 Lead; RoHS: O; PinCount: 16; DigiKeyPartNumber: LP2960AIM-5.0-ND; Code_JEDEC: MS-012-AC; Code_IPC: SOIC127P600-16; ComponentLink1Description: LP2960 Datasheet; ComponentLink1URL: http://www.national.com/ds/LP/LP2960.pdf; ComponentLink2Description: LP2960 Web Page; ComponentLink2URL: http://www.national.com/pf/LP/LP2960.html; ComponentLink3Description: M16A Package Page; ComponentLink3URL: http://www.national.com/packaging/folders/m16a.html
footprint M16A_N (SOIC, 16-Leads, Body 9.9x3.9mm, Pitch 1.27mm, IPC Medium Density)
footprint M16A_L (SOIC, 16-Leads, Body 9.9x3.9mm, Pitch 1.27mm, IPC High Density)
footprint M16A_M (SOIC, 16-Leads, Body 9.9x3.9mm, Pitch 1.27mm, IPC Low Density)
pins: 1 GND (power), 2 OUT (power), 3 SNS (in), 4 VREF (in), 5 ~{SD} (in), 6 ~{ERR} (oc), 7 AGND (power), 8 GND (power), 9 GND (power), 10 FB (in), 11 V TAP, 12 COMP OUT (oc), 13 GND (power), 14 COMP IN (in), 15 IN (power), 16 GND (power)

## LP2960IM-3.3
designator U?
Adjustable Micropower 0.5A Low-Dropout Regulators; PartNumber: LP2960IM-3.3; Manufacturer: National Semiconductor; CompType: LDO IC; PackageTopMarking: NSUZXYTT*LP2960IM*-3.3; Published: 4-Dec-2008; DatasheetVersion: Jun-2005; PackageVersion: revJ, Aug-1995; PackageReference: M16A; Publisher: Altium Limited; PackageDescription: Molded Package, SO, .150in Wide, 16 Lead; RoHS: Y; PinCount: 16; DigiKeyPartNumber: LP2960IM-3.3-ND; Code_JEDEC: MS-012-AC; Code_IPC: SOIC127P600-16; ComponentLink1Description: LP2960 Datasheet; ComponentLink1URL: http://www.national.com/ds/LP/LP2960.pdf; ComponentLink2Description: LP2960 Web Page; ComponentLink2URL: http://www.national.com/pf/LP/LP2960.html; ComponentLink3Description: M16A Package Page; ComponentLink3URL: http://www.national.com/packaging/folders/m16a.html
footprint M16A_N (SOIC, 16-Leads, Body 9.9x3.9mm, Pitch 1.27mm, IPC Medium Density)
footprint M16A_L (SOIC, 16-Leads, Body 9.9x3.9mm, Pitch 1.27mm, IPC High Density)
footprint M16A_M (SOIC, 16-Leads, Body 9.9x3.9mm, Pitch 1.27mm, IPC Low Density)
pins: 1 GND (power), 2 OUT (power), 3 SNS (in), 4 VREF (in), 5 ~{SD} (in), 6 ~{ERR} (oc), 7 AGND (power), 8 GND (power), 9 GND (power), 10 FB (in), 11 V TAP, 12 COMP OUT (oc), 13 GND (power), 14 COMP IN (in), 15 IN (power), 16 GND (power)

## LP2960IM-5.0
designator U?
Adjustable Micropower 0.5A Low-Dropout Regulators; PartNumber: LP2960IM-5.0; Manufacturer: National Semiconductor; CompType: LDO IC; PackageTopMarking: NSUZXYTT*LP2960IM*-5.0; Published: 4-Dec-2008; DatasheetVersion: Jun-2005; PackageVersion: revJ, Aug-1995; PackageReference: M16A; Publisher: Altium Limited; PackageDescription: Molded Package, SO, .150in Wide, 16 Lead; RoHS: Y; PinCount: 16; DigiKeyPartNumber: LP2960IM-5.0-ND; Code_JEDEC: MS-012-AC; Code_IPC: SOIC127P600-16; ComponentLink1Description: LP2960 Datasheet; ComponentLink1URL: http://www.national.com/ds/LP/LP2960.pdf; ComponentLink2Description: LP2960 Web Page; ComponentLink2URL: http://www.national.com/pf/LP/LP2960.html; ComponentLink3Description: M16A Package Page; ComponentLink3URL: http://www.national.com/packaging/folders/m16a.html
footprint M16A_N (SOIC, 16-Leads, Body 9.9x3.9mm, Pitch 1.27mm, IPC Medium Density)
footprint M16A_L (SOIC, 16-Leads, Body 9.9x3.9mm, Pitch 1.27mm, IPC High Density)
footprint M16A_M (SOIC, 16-Leads, Body 9.9x3.9mm, Pitch 1.27mm, IPC Low Density)
pins: 1 GND (power), 2 OUT (power), 3 SNS (in), 4 VREF (in), 5 ~{SD} (in), 6 ~{ERR} (oc), 7 AGND (power), 8 GND (power), 9 GND (power), 10 FB (in), 11 V TAP, 12 COMP OUT (oc), 13 GND (power), 14 COMP IN (in), 15 IN (power), 16 GND (power)

## LP2966IMM-1830
designator U?
Dual 150mA Ultra Low-Dropout Regulator; PartNumber: LP2966IMM-1830; Manufacturer: National Semiconductor; CompType: LDO IC; PackageTopMarking: ZXTT*LEYB; Published: 4-Dec-2008; DatasheetVersion: Mar-2005; PackageVersion: revF, Apr-2008; PackageReference: MUA08A; Publisher: Altium Limited; PackageDescription: MINI SOIC, .118 x .118 x .034in, 8 Lead, .0256in Pitch; RoHS: Y; PinCount: 8; DigiKeyPartNumber: LP2966IMM-1830CT-ND; Code_JEDEC: MO-187-AA; ComponentLink1Description: LP2966 Datasheet; ComponentLink1URL: http://www.national.com/ds/LP/LP2966.pdf; ComponentLink2Description: LP2966 Web Page; ComponentLink2URL: http://www.national.com/pf/LP/LP2966.html; ComponentLink3Description: MUA08A Package Page; ComponentLink3URL: http://www.national.com/packaging/folders/mua08a.html
footprint MUA08A_N (TSOP, 8-Leads, Body 3x3mm, Pitch 0.65mm, IPC Medium Density)
footprint MUA08A_L (TSOP, 8-Leads, Body 3x3mm, Pitch 0.65mm, IPC High Density)
footprint MUA08A_M (TSOP, 8-Leads, Body 3x3mm, Pitch 0.65mm, IPC Low Density)
pins: 1 IN (power), 2 ~{SD1} (in), 3 ~{SD2} (in), 4 GND (power), 5 ~{ERR2} (oc), 6 ~{ERR1} (oc), 7 OUT2 (power), 8 OUT1 (power)

## LP2966IMM-1833
designator U?
Dual 150mA Ultra Low-Dropout Regulator; PartNumber: LP2966IMM-1833; Manufacturer: National Semiconductor; CompType: LDO IC; PackageTopMarking: ZXTT*LCFB; Published: 4-Dec-2008; DatasheetVersion: Mar-2005; PackageVersion: revF, Apr-2008; PackageReference: MUA08A; Publisher: Altium Limited; PackageDescription: MINI SOIC, .118 x .118 x .034in, 8 Lead, .0256in Pitch; RoHS: Y; PinCount: 8; DigiKeyPartNumber: LP2966IMM-1833CT-ND; Code_JEDEC: MO-187-AA; ComponentLink1Description: LP2966 Datasheet; ComponentLink1URL: http://www.national.com/ds/LP/LP2966.pdf; ComponentLink2Description: LP2966 Web Page; ComponentLink2URL: http://www.national.com/pf/LP/LP2966.html; ComponentLink3Description: MUA08A Package Page; ComponentLink3URL: http://www.national.com/packaging/folders/mua08a.html
footprint MUA08A_N (TSOP, 8-Leads, Body 3x3mm, Pitch 0.65mm, IPC Medium Density)
footprint MUA08A_L (TSOP, 8-Leads, Body 3x3mm, Pitch 0.65mm, IPC High Density)
footprint MUA08A_M (TSOP, 8-Leads, Body 3x3mm, Pitch 0.65mm, IPC Low Density)
pins: 1 IN (power), 2 ~{SD1} (in), 3 ~{SD2} (in), 4 GND (power), 5 ~{ERR2} (oc), 6 ~{ERR1} (oc), 7 OUT2 (power), 8 OUT1 (power)

## LP2966IMM-2518
designator U?
Dual 150mA Ultra Low-Dropout Regulator; PartNumber: LP2966IMM-2518; Manufacturer: National Semiconductor; CompType: LDO IC; PackageTopMarking: ZXTT*LJKB; Published: 4-Dec-2008; DatasheetVersion: Mar-2005; PackageVersion: revF, Apr-2008; PackageReference: MUA08A; Publisher: Altium Limited; PackageDescription: MINI SOIC, .118 x .118 x .034in, 8 Lead, .0256in Pitch; RoHS: Y; PinCount: 8; DigiKeyPartNumber: LP2966IMM-2518CT-ND; Code_JEDEC: MO-187-AA; ComponentLink1Description: LP2966 Datasheet; ComponentLink1URL: http://www.national.com/ds/LP/LP2966.pdf; ComponentLink2Description: LP2966 Web Page; ComponentLink2URL: http://www.national.com/pf/LP/LP2966.html; ComponentLink3Description: MUA08A Package Page; ComponentLink3URL: http://www.national.com/packaging/folders/mua08a.html
footprint MUA08A_N (TSOP, 8-Leads, Body 3x3mm, Pitch 0.65mm, IPC Medium Density)
footprint MUA08A_L (TSOP, 8-Leads, Body 3x3mm, Pitch 0.65mm, IPC High Density)
footprint MUA08A_M (TSOP, 8-Leads, Body 3x3mm, Pitch 0.65mm, IPC Low Density)
pins: 1 IN (power), 2 ~{SD1} (in), 3 ~{SD2} (in), 4 GND (power), 5 ~{ERR2} (oc), 6 ~{ERR1} (oc), 7 OUT2 (power), 8 OUT1 (power)

## LP2966IMM-2525
designator U?
Dual 150mA Ultra Low-Dropout Regulator; PartNumber: LP2966IMM-2525; Manufacturer: National Semiconductor; CompType: LDO IC; PackageTopMarking: ZXTT*LAAB; Published: 4-Dec-2008; DatasheetVersion: Mar-2005; PackageVersion: revF, Apr-2008; PackageReference: MUA08A; Publisher: Altium Limited; PackageDescription: MINI SOIC, .118 x .118 x .034in, 8 Lead, .0256in Pitch; RoHS: Y; PinCount: 8; DigiKeyPartNumber: LP2966IMM-2525CT-ND; Code_JEDEC: MO-187-AA; ComponentLink1Description: LP2966 Datasheet; ComponentLink1URL: http://www.national.com/ds/LP/LP2966.pdf; ComponentLink2Description: LP2966 Web Page; ComponentLink2URL: http://www.national.com/pf/LP/LP2966.html; ComponentLink3Description: MUA08A Package Page; ComponentLink3URL: http://www.national.com/packaging/folders/mua08a.html
footprint MUA08A_N (TSOP, 8-Leads, Body 3x3mm, Pitch 0.65mm, IPC Medium Density)
footprint MUA08A_L (TSOP, 8-Leads, Body 3x3mm, Pitch 0.65mm, IPC High Density)
footprint MUA08A_M (TSOP, 8-Leads, Body 3x3mm, Pitch 0.65mm, IPC Low Density)
pins: 1 IN (power), 2 ~{SD1} (in), 3 ~{SD2} (in), 4 GND (power), 5 ~{ERR2} (oc), 6 ~{ERR1} (oc), 7 OUT2 (power), 8 OUT1 (power)

## LP2966IMM-2828
designator U?
Dual 150mA Ultra Low-Dropout Regulator; PartNumber: LP2966IMM-2828; Manufacturer: National Semiconductor; CompType: LDO IC; PackageTopMarking: ZXTT*LABB; Published: 4-Dec-2008; DatasheetVersion: Mar-2005; PackageVersion: revF, Apr-2008; PackageReference: MUA08A; Publisher: Altium Limited; PackageDescription: MINI SOIC, .118 x .118 x .034in, 8 Lead, .0256in Pitch; RoHS: Y; PinCount: 8; DigiKeyPartNumber: LP2966IMM-2828CT-ND; Code_JEDEC: MO-187-AA; ComponentLink1Description: LP2966 Datasheet; ComponentLink1URL: http://www.national.com/ds/LP/LP2966.pdf; ComponentLink2Description: LP2966 Web Page; ComponentLink2URL: http://www.national.com/pf/LP/LP2966.html; ComponentLink3Description: MUA08A Package Page; ComponentLink3URL: http://www.national.com/packaging/folders/mua08a.html
footprint MUA08A_N (TSOP, 8-Leads, Body 3x3mm, Pitch 0.65mm, IPC Medium Density)
footprint MUA08A_L (TSOP, 8-Leads, Body 3x3mm, Pitch 0.65mm, IPC High Density)
footprint MUA08A_M (TSOP, 8-Leads, Body 3x3mm, Pitch 0.65mm, IPC Low Density)
pins: 1 IN (power), 2 ~{SD1} (in), 3 ~{SD2} (in), 4 GND (power), 5 ~{ERR2} (oc), 6 ~{ERR1} (oc), 7 OUT2 (power), 8 OUT1 (power)

## LP2966IMM-3030
designator U?
Dual 150mA Ultra Low-Dropout Regulator; PartNumber: LP2966IMM-3030; Manufacturer: National Semiconductor; CompType: LDO IC; PackageTopMarking: ZXTT*LACB; Published: 4-Dec-2008; DatasheetVersion: Mar-2005; PackageVersion: revF, Apr-2008; PackageReference: MUA08A; Publisher: Altium Limited; PackageDescription: MINI SOIC, .118 x .118 x .034in, 8 Lead, .0256in Pitch; RoHS: Y; PinCount: 8; DigiKeyPartNumber: LP2966IMM-3030CT-ND; Code_JEDEC: MO-187-AA; ComponentLink1Description: LP2966 Datasheet; ComponentLink1URL: http://www.national.com/ds/LP/LP2966.pdf; ComponentLink2Description: LP2966 Web Page; ComponentLink2URL: http://www.national.com/pf/LP/LP2966.html; ComponentLink3Description: MUA08A Package Page; ComponentLink3URL: http://www.national.com/packaging/folders/mua08a.html
footprint MUA08A_N (TSOP, 8-Leads, Body 3x3mm, Pitch 0.65mm, IPC Medium Density)
footprint MUA08A_L (TSOP, 8-Leads, Body 3x3mm, Pitch 0.65mm, IPC High Density)
footprint MUA08A_M (TSOP, 8-Leads, Body 3x3mm, Pitch 0.65mm, IPC Low Density)
pins: 1 IN (power), 2 ~{SD1} (in), 3 ~{SD2} (in), 4 GND (power), 5 ~{ERR2} (oc), 6 ~{ERR1} (oc), 7 OUT2 (power), 8 OUT1 (power)

## LP2966IMM-3325
designator U?
Dual 150mA Ultra Low-Dropout Regulator; PartNumber: LP2966IMM-3325; Manufacturer: National Semiconductor; CompType: LDO IC; PackageTopMarking: ZXTT*LARB; Published: 4-Dec-2008; DatasheetVersion: Mar-2005; PackageVersion: revF, Apr-2008; PackageReference: MUA08A; Publisher: Altium Limited; PackageDescription: MINI SOIC, .118 x .118 x .034in, 8 Lead, .0256in Pitch; RoHS: O; PinCount: 8; DigiKeyPartNumber: LP2966IMM-3325CT-ND; Code_JEDEC: MO-187-AA; ComponentLink1Description: LP2966 Datasheet; ComponentLink1URL: http://www.national.com/ds/LP/LP2966.pdf; ComponentLink2Description: LP2966 Web Page; ComponentLink2URL: http://www.national.com/pf/LP/LP2966.html; ComponentLink3Description: MUA08A Package Page; ComponentLink3URL: http://www.national.com/packaging/folders/mua08a.html
footprint MUA08A_N (TSOP, 8-Leads, Body 3x3mm, Pitch 0.65mm, IPC Medium Density)
footprint MUA08A_L (TSOP, 8-Leads, Body 3x3mm, Pitch 0.65mm, IPC High Density)
footprint MUA08A_M (TSOP, 8-Leads, Body 3x3mm, Pitch 0.65mm, IPC Low Density)
pins: 1 IN (power), 2 ~{SD1} (in), 3 ~{SD2} (in), 4 GND (power), 5 ~{ERR2} (oc), 6 ~{ERR1} (oc), 7 OUT2 (power), 8 OUT1 (power)

## LP2966IMM-3333
designator U?
Dual 150mA Ultra Low-Dropout Regulator; PartNumber: LP2966IMM-3333; Manufacturer: National Semiconductor; CompType: LDO IC; PackageTopMarking: ZXTT*LADB; Published: 4-Dec-2008; DatasheetVersion: Mar-2005; PackageVersion: revF, Apr-2008; PackageReference: MUA08A; Publisher: Altium Limited; PackageDescription: MINI SOIC, .118 x .118 x .034in, 8 Lead, .0256in Pitch; RoHS: Y; PinCount: 8; DigiKeyPartNumber: LP2966IMM-3333CT-ND; Code_JEDEC: MO-187-AA; ComponentLink1Description: LP2966 Datasheet; ComponentLink1URL: http://www.national.com/ds/LP/LP2966.pdf; ComponentLink2Description: LP2966 Web Page; ComponentLink2URL: http://www.national.com/pf/LP/LP2966.html; ComponentLink3Description: MUA08A Package Page; ComponentLink3URL: http://www.national.com/packaging/folders/mua08a.html
footprint MUA08A_N (TSOP, 8-Leads, Body 3x3mm, Pitch 0.65mm, IPC Medium Density)
footprint MUA08A_L (TSOP, 8-Leads, Body 3x3mm, Pitch 0.65mm, IPC High Density)
footprint MUA08A_M (TSOP, 8-Leads, Body 3x3mm, Pitch 0.65mm, IPC Low Density)
pins: 1 IN (power), 2 ~{SD1} (in), 3 ~{SD2} (in), 4 GND (power), 5 ~{ERR2} (oc), 6 ~{ERR1} (oc), 7 OUT2 (power), 8 OUT1 (power)

## LP2966IMM-3636
designator U?
Dual 150mA Ultra Low-Dropout Regulator; PartNumber: LP2966IMM-3636; Manufacturer: National Semiconductor; CompType: LDO IC; PackageTopMarking: ZXTT*LAEB; Published: 4-Dec-2008; DatasheetVersion: Mar-2005; PackageVersion: revF, Apr-2008; PackageReference: MUA08A; Publisher: Altium Limited; PackageDescription: MINI SOIC, .118 x .118 x .034in, 8 Lead, .0256in Pitch; RoHS: Y; PinCount: 8; DigiKeyPartNumber: LP2966IMM-3636CT-ND; Code_JEDEC: MO-187-AA; ComponentLink1Description: LP2966 Datasheet; ComponentLink1URL: http://www.national.com/ds/LP/LP2966.pdf; ComponentLink2Description: LP2966 Web Page; ComponentLink2URL: http://www.national.com/pf/LP/LP2966.html; ComponentLink3Description: MUA08A Package Page; ComponentLink3URL: http://www.national.com/packaging/folders/mua08a.html
footprint MUA08A_N (TSOP, 8-Leads, Body 3x3mm, Pitch 0.65mm, IPC Medium Density)
footprint MUA08A_L (TSOP, 8-Leads, Body 3x3mm, Pitch 0.65mm, IPC High Density)
footprint MUA08A_M (TSOP, 8-Leads, Body 3x3mm, Pitch 0.65mm, IPC Low Density)
pins: 1 IN (power), 2 ~{SD1} (in), 3 ~{SD2} (in), 4 GND (power), 5 ~{ERR2} (oc), 6 ~{ERR1} (oc), 7 OUT2 (power), 8 OUT1 (power)

## LP2966IMM-5050
designator U?
Dual 150mA Ultra Low-Dropout Regulator; PartNumber: LP2966IMM-5050; Manufacturer: National Semiconductor; CompType: LDO IC; PackageTopMarking: ZXTT*LAFB; Published: 4-Dec-2008; DatasheetVersion: Mar-2005; PackageVersion: revF, Apr-2008; PackageReference: MUA08A; Publisher: Altium Limited; PackageDescription: MINI SOIC, .118 x .118 x .034in, 8 Lead, .0256in Pitch; RoHS: Y; PinCount: 8; DigiKeyPartNumber: LP2966IMM-5050CT-ND; Code_JEDEC: MO-187-AA; ComponentLink1Description: LP2966 Datasheet; ComponentLink1URL: http://www.national.com/ds/LP/LP2966.pdf; ComponentLink2Description: LP2966 Web Page; ComponentLink2URL: http://www.national.com/pf/LP/LP2966.html; ComponentLink3Description: MUA08A Package Page; ComponentLink3URL: http://www.national.com/packaging/folders/mua08a.html
footprint MUA08A_N (TSOP, 8-Leads, Body 3x3mm, Pitch 0.65mm, IPC Medium Density)
footprint MUA08A_L (TSOP, 8-Leads, Body 3x3mm, Pitch 0.65mm, IPC High Density)
footprint MUA08A_M (TSOP, 8-Leads, Body 3x3mm, Pitch 0.65mm, IPC Low Density)
pins: 1 IN (power), 2 ~{SD1} (in), 3 ~{SD2} (in), 4 GND (power), 5 ~{ERR2} (oc), 6 ~{ERR1} (oc), 7 OUT2 (power), 8 OUT1 (power)

## LP2967IMM-2833
designator U?
Dual Micropower 150 mA Low-Dropout Regulator in micro SMD Package; PartNumber: LP2967IMM-2833; Manufacturer: National Semiconductor; CompType: LDO IC; PackageTopMarking: ZXTT*LCCB; Published: 4-Dec-2008; DatasheetVersion: Jun-2005; PackageVersion: revF, Apr-2008; PackageReference: MUA08A; Publisher: Altium Limited; PackageDescription: MINI SOIC, .118 x .118 x .034in, 8 Lead, .0256in Pitch; RoHS: Y; PinCount: 8; DigiKeyPartNumber: LP2967IMM-2833CT-ND; Code_JEDEC: MO-187-AA; ComponentLink1Description: LP2967 Datasheet; ComponentLink1URL: http://www.national.com/ds/LP/LP2967.pdf; ComponentLink2Description: LP2967 Web Page; ComponentLink2URL: http://www.national.com/pf/LP/LP2967.html; ComponentLink3Description: MUA08A Package Page; ComponentLink3URL: http://www.national.com/packaging/folders/mua08a.html
footprint MUA08A_N (TSOP, 8-Leads, Body 3x3mm, Pitch 0.65mm, IPC Medium Density)
footprint MUA08A_L (TSOP, 8-Leads, Body 3x3mm, Pitch 0.65mm, IPC High Density)
footprint MUA08A_M (TSOP, 8-Leads, Body 3x3mm, Pitch 0.65mm, IPC Low Density)
pins: 1 IN (power), 2 OUT1 (power), 3 SD1 (in), 4 GND (power), 5 BYP, 6 SD2 (in), 7 OUT2 (power), 8 IN (power)

## LP2967ITP-1825
designator U?
Dual Micropower 150 mA Low-Dropout Regulator in micro SMD Package; PartNumber: LP2967ITP-1825; Manufacturer: National Semiconductor; CompType: LDO IC; PackageTopMarking: XVL*I 07; Published: 4-Dec-2008; DatasheetVersion: Jun-2005; PackageVersion: revA, Mar-2002; PackageReference: TPA08F5A; Publisher: Altium Limited; PackageDescription: Thin Micro SMD, 8 Bump, 0.5mm Pitch; RoHS: Y; PinCount: 8; DigiKeyPartNumber: LP2967ITP-1825CT-ND; Code_JEDEC: MO-211-BC; ComponentLink1Description: LP2967 Datasheet; ComponentLink1URL: http://www.national.com/ds/LP/LP2967.pdf; ComponentLink2Description: LP2967 Web Page; ComponentLink2URL: http://www.national.com/pf/LP/LP2967.html; ComponentLink3Description: TPA08F5A Package Page; ComponentLink3URL: http://www.national.com/packaging/folders/tpa08f5a.html
footprint TPA08F5A (Micro SMD, 8-Leads, Body 1.95x1.41mm, Pitch 0.5mm, NSC Recommended)
pins: A1 OUT2 (power), A2 IN (power), A3 OUT1 (power), B1 SD2 (in), B3 SD1 (in), C1 CBYP, C2 GND (power), C3 GND (power)

## LP2967ITP-1833
designator U?
Dual Micropower 150 mA Low-Dropout Regulator in micro SMD Package; PartNumber: LP2967ITP-1833; Manufacturer: National Semiconductor; CompType: LDO IC; PackageTopMarking: XVL*I 11; Published: 4-Dec-2008; DatasheetVersion: Jun-2005; PackageVersion: revA, Mar-2002; PackageReference: TPA08F5A; Publisher: Altium Limited; PackageDescription: Thin Micro SMD, 8 Bump, 0.5mm Pitch; RoHS: Y; PinCount: 8; DigiKeyPartNumber: LP2967ITP-1833CT-ND; Code_JEDEC: MO-211-BC; ComponentLink1Description: LP2967 Datasheet; ComponentLink1URL: http://www.national.com/ds/LP/LP2967.pdf; ComponentLink2Description: LP2967 Web Page; ComponentLink2URL: http://www.national.com/pf/LP/LP2967.html; ComponentLink3Description: TPA08F5A Package Page; ComponentLink3URL: http://www.national.com/packaging/folders/tpa08f5a.html
footprint TPA08F5A (Micro SMD, 8-Leads, Body 1.95x1.41mm, Pitch 0.5mm, NSC Recommended)
pins: A1 OUT2 (power), A2 IN (power), A3 OUT1 (power), B1 SD2 (in), B3 SD1 (in), C1 CBYP, C2 GND (power), C3 GND (power)